# Altium integrated library TL072ACP.IntLib: 1 symbol
Pins are listed as number, name and electrical type; pins without a type are passive.

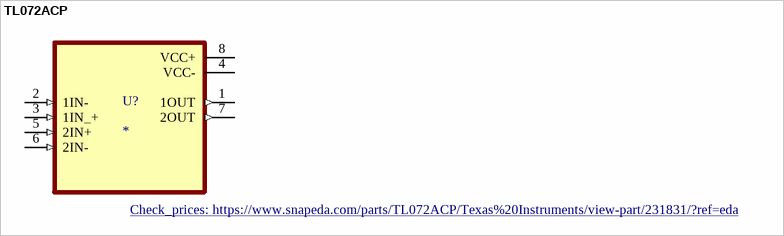
[diagram p0: symbol TL072ACP]

## TL072ACP
designator U?
Dual low-noise JFET-input improved offset operational amplifier 8-PDIP 0 to 70; MP: TL072ACP; MF: Texas Instruments; Texas_Instruments-Purchase-URL: https://snapeda.com/shop?store=Texas+Instruments&id=231831; Package: PDIP-8 Texas; DigiKey-Purchase-URL: https://snapeda.com/shop?store=DigiKey&id=231831; Mouser-Purchase-URL: https://snapeda.com/shop?store=Mouser&id=231831; Value: *; Availability: Good; Price: None; SnapEDA_Link: https://www.snapeda.com/parts/TL072ACP/Texas%20Instruments/view-part/231831/?ref=snap; Check_prices: https://www.snapeda.com/parts/TL072ACP/Texas%20Instruments/view-part/231831/?ref=eda
footprint DIP794W45P254L959H508Q8
pins: 1 1OUT (out), 2 1IN- (in), 3 1IN_+ (in), 4 VCC- (power), 5 2IN+ (in), 6 2IN- (in), 7 2OUT (out), 8 VCC+ (power)